# EAGLE library part LM2665M6X (library glasses)
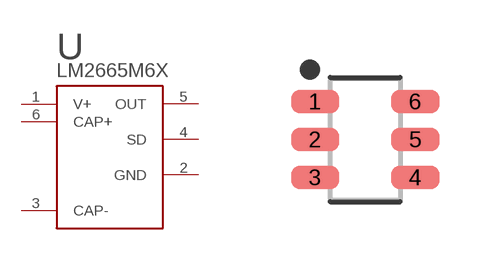
[diagram p14: symbol with the pads of SOT95P280X145-6; footprint SOT95P280X145-6]

Designator prefix U

## LM2665M6XSOT23-6  [SOT95P280X145-6]
1  V+
2  GND
3  CAP-
4  SD
5  OUT
6  CAP+

## Footprint SOT95P280X145-6 (pad centres in mm)
6-SOT23, 0.95 mm pitch, 2.80 mm span, 2.90 X 1.60 X 1.45 mm body 6-pin SOT23 package with 0.95 mm pitch, 2.80 mm span with body size 2.90 X 1.60 X 1.45 mm
smd 1.209 x 0.584: 1 -1.253,0.95; 2 -1.253,0; 3 -1.253,-0.95; 4 1.253,-0.95; 5 1.253,0; 6 1.253,0.95